# Altium schematic symbol library Connectors.SchLib: 60 symbols (part 3 of 3)
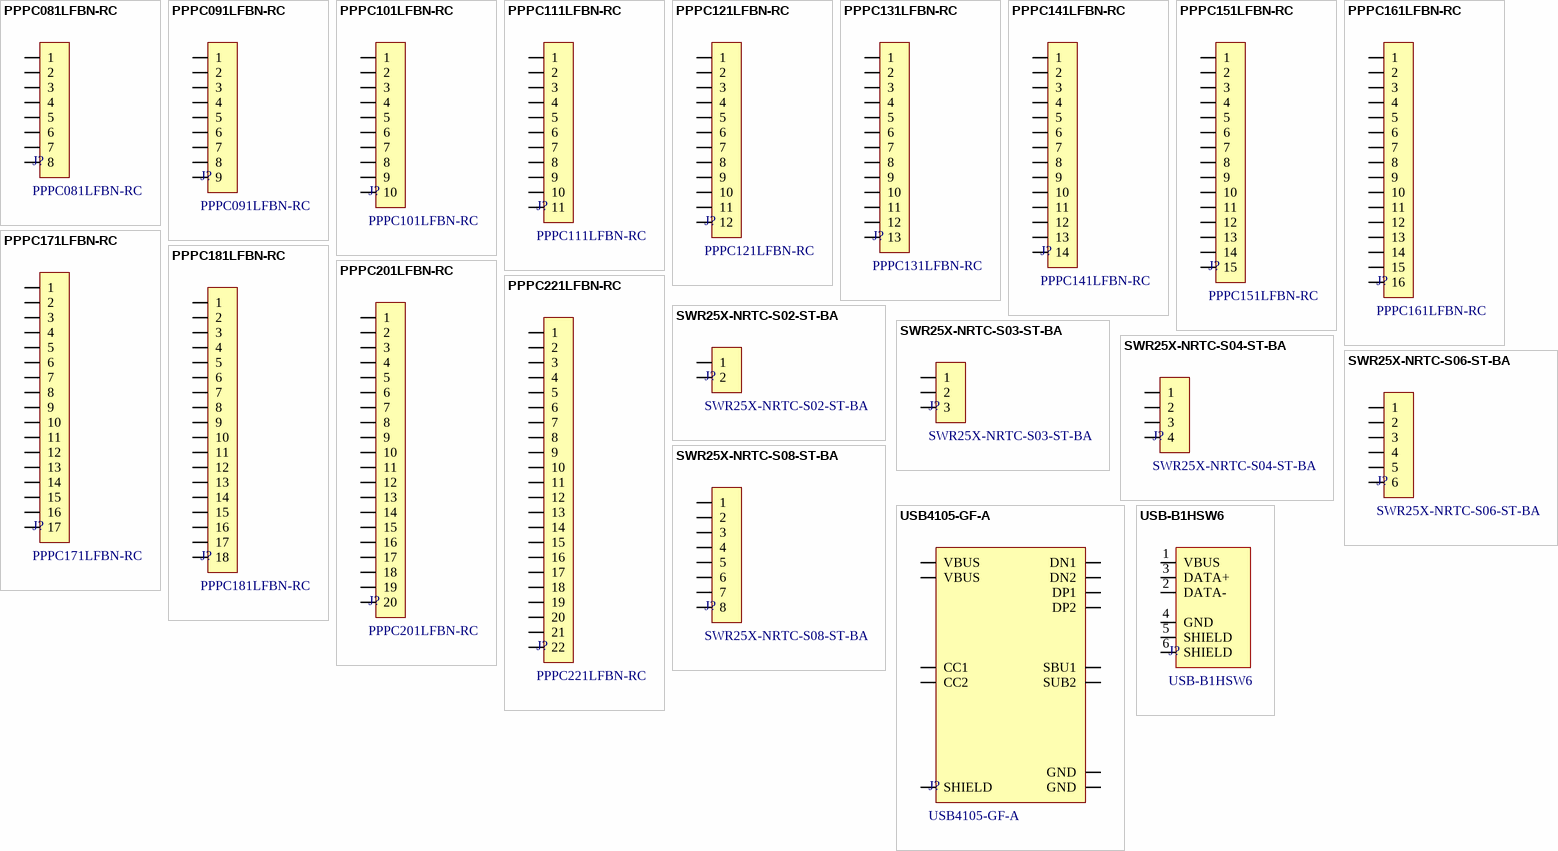
[diagram p3: symbols PPPC081LFBN-RC to USB-B1HSW6]

## SWR25X-NRTC-S08-ST-BA
designator J?
CONN HEADER VERT 8POS 2.54MM; Manufacturer: Sullins; Manufacturer Series: SWR25X; Connector Type: BOARD CONNECTOR; Contact Pattern: RECTANGULAR; Contact Resistance: 20mR; Contact Style: SQ PIN-SKT; Dielectric Withstanding Voltage (AC): 1kV; Insulation Resistance: 1GR; Number of Rows Loaded: 1; Polarization Key: POLARIZED HOUSING; Rated Current (Signal): 5A; Number of Contacts: 8; Body Breadth: 0.228inch; Body Depth: 0.449inch; Body Length: 0.806inch; Mating Contact Pitch: 0.1inch; Mounting Option 1: LOCKING; Reference Standard: UL; Reliability: COMMERCIAL; Supplier: Digikey; Supplier Part Number: S9404-ND; Manufacturer Part Number: SWR25X-NRTC-S08-ST-BA; RoHS: Yes; Category: Connectors; Stock: 2241; Pricing: 1=0.35, 10=0.298, 100=0.2319, 500=0.19874, 2000=0.1571, 6000=0.14196, 10000=0.1352 (USD); Mounting Technology: Board; Insulation Color: Beige; Insulation Material: Nylon; Contact Material: Brass; Contact Finish - Mating: SN ON NI; Contact Finish - Termination: TIN OVER NICKEL; Min Operating Temperature: -25°C; Max Operating Temperature: 85°C; Contact Gender: Male; Mounting Style: STRAIGHT; Number Of Connectors: 1; Number Of PCB Rows: 1; PCB Contact Pattern: RECTANGULAR; Termination: Solder; Terminal Length: 0.134inch; Terminal Pitch: 2.54mm; Reach SVHC Compliant: Yes; RoHS Compliant: Yes; ComponentLink1URL: https://datasheet.ciiva.com:443/pdfs/VipMasterIC/IC/SUCS/SUCSS00231/SUCSS00231-1.pdf?src-supplier=IHS+Markit; ComponentLink1Description: https://datasheet.ciiva.com:443/pdfs/VipMasterIC/IC/SUCS/SUCSS00231/SUCSS00231-1.pdf?src-supplier=IHS+Markit; ComponentLink2URL: https://datasheet.ciiva.com/16492/swr25x-nrtc-st-ba-16492097.pdf?src-supplier=Future+Electronics; ComponentLink2Description: https://datasheet.ciiva.com/16492/swr25x-nrtc-st-ba-16492097.pdf?src-supplier=Future+Electronics; ComponentLink3URL: https://datasheet.ciiva.com/740/swr25x-nrtc-sxx-st-ba-740726.pdf?src-supplier=Digikey; ComponentLink3Description: https://datasheet.ciiva.com/740/swr25x-nrtc-sxx-st-ba-740726.pdf?src-supplier=Digikey
footprint CON_SWR25X_8P_2P54_PITCH
pins: 1, 2, 3, 4, 5, 6, 7, 8

## USB4105-GF-A
designator J?
CONN RCP USB2.0 TYP C 16P SMD RA; Manufacturer: Global Connector Technology; Contact Resistance: 50mΩ; Current Rating: 6.25A; Dielectric Material: Liquid Crystal Polymer; Gender: Receptacle; Insulation Resistance: 100MΩ; Number of Contacts: 16; Number of Ports: 1; Voltage Rating: 20V; Supplier: DigiKey; Supplier Part Number: 2073-USB4105-GF-ACT-ND; Manufacturer Part Number: USB4105-GF-A; RoHS: Compliant; Category: USB Connectors; Stock: 6325; Pricing: 1=0.78, 10=0.658, 25=0.6172, 50=0.5876, 100=0.5595, 250=0.5244 (USD); China RoHS: Compliant; Contact Gender: Female; Contact Material: Gold, Nickel; Height: 3.46mm; Lifecycle Status: Production; Max Operating Temperature: 85°C; Min Operating Temperature: -40°C; Pins: 24; Number of Rows: 1; Orientation: Horizontal; REACH SVHC: Yes; Shell Finish: Nickel; Shell Material: Stainless Steel; Terminal Pitch: 500µm; USB Standard: USB 2.0; ComponentLink1URL: https://datasheet.octopart.com:443/USB4105-GF-A-GCT-datasheet-166929323.pdf?src-supplier=SOS+electronic; ComponentLink1Description: https://datasheet.octopart.com:443/USB4105-GF-A-GCT-datasheet-166929323.pdf?src-supplier=SOS+electronic; ComponentLink2URL: https://datasheet.octopart.com:443/USB4105-GF-A-GCT-datasheet-188935996.pdf?src-supplier=TME; ComponentLink2Description: https://datasheet.octopart.com:443/USB4105-GF-A-GCT-datasheet-188935996.pdf?src-supplier=TME; ComponentLink3URL: https://datasheet.octopart.com:443/USB4105-GF-A-GCT-datasheet-188869076.pdf?src-supplier=TME; ComponentLink3Description: https://datasheet.octopart.com:443/USB4105-GF-A-GCT-datasheet-188869076.pdf?src-supplier=TME; ComponentLink4URL: https://datasheet.octopart.com:443/USB4105-GF-A-GCT-datasheet-166927665.pdf?src-supplier=TME; ComponentLink4Description: https://datasheet.octopart.com:443/USB4105-GF-A-GCT-datasheet-166927665.pdf?src-supplier=TME
footprint USB4105-GF-A
pins: A1_B12 GND (power), A4_B9 VBUS, A5 CC1, A6 DP1, A7 DN1, A8 SBU1, B1_A12 GND (power), B4_A9 VBUS, B5 CC2, B6 DP2, B7 DN2, B8 SUB2, SH SHIELD

## USB-B1HSW6
designator J?
CONN RCPT TYPEB 4POS R/A; Manufacturer: On-Shore Technology; Connector Type: USB; Board Mounting Option: SPLIT BOARD LOCK; Contact Resistance: 30mR; Dielectric Withstanding Voltage (AC): 750V; Insulation Resistance: 1GR; Number Of Connectors: 1; Number Of PCB Rows: 2; PCB Contact Pattern: RECTANGULAR; Polarization Key: POLARIZED HOUSING; Rated Current (Signal): 1A; Number of Contacts: 4; Body Breadth: 0.429inch; Body Depth: 0.65inch; Body Length: 0.476inch; Mounting Option 1: LOCKING; PCB Contact Row Spacing: 2.0066mm; Reference Standard: UL; Reliability: COMMERCIAL; Supplier: Digikey; Supplier Part Number: ED2982-ND; Manufacturer Part Number: USB-B1HSW6; RoHS: Yes; Category: Connectors; Stock: 89686; Pricing: 1=0.49, 10=0.424, 25=0.3876, 60=0.36467, 120=0.3495, 240=0.31908, 480=0.30388, 960=0.2675 (USD); Mounting Technology: Board; Contact Material: Bronze; Contact Finish - Mating: AU ON NI; Insulation Material: Glass; Shell Finish: Tin; Shell Material: Brass; Min Operating Temperature: 0°C; Max Operating Temperature: 50°C; Contact Gender: Female; Contact Style: USB; Manufacturer Series: USB-B1HS; Mounting Style: RIGHT ANGLE; Termination: Solder; Terminal Length: 0.11inch; Terminal Pitch: 2.54mm; Reach SVHC Compliant: Yes; RoHS Compliant: Yes; ComponentLink1URL: https://datasheet.ciiva.com:443/pdfs/VipMasterIC/IC/ONST/ONST-S-Z0000000691/ONST-S-Z0000000691-1.pdf?src-supplier=IHS+Markit; ComponentLink1Description: https://datasheet.ciiva.com:443/pdfs/VipMasterIC/IC/ONST/ONST-S-Z0000000691/ONST-S-Z0000000691-1.pdf?src-supplier=IHS+Markit; ComponentLink2URL: http://www.on-shore.com/wp-content/uploads/2015/09/usb-b1hsxx.pdf?src-supplier=Digikey; ComponentLink2Description: http://www.on-shore.com/wp-content/uploads/2015/09/usb-b1hsxx.pdf?src-supplier=Digikey
footprint USB_B
pins: 1 VBUS, 2 DATA-, 3 DATA+, 4 GND, 5 SHIELD, 6 SHIELD